# EAGLE library part NFA18SL227V1A45L (library Filters)
FILTER LC 220MHZ SMD Manufacturer's datasheet <https://www.murata.com/en-us/products/productdata/8796732686366/ENFD0007.pdf>
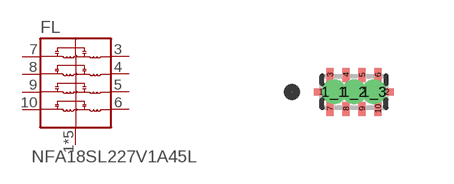
[diagram p3: symbol with the pads of 0603_ARRAY; footprint 0603_ARRAY]

Designator prefix FL

## NFA18SL227V1A45L (CREATED_BY: PCBLayout.com; DIGIKEY_PARTNO: 490-7791-2-ND; MANUFACTURER: Murata Electronics; MPN: NFA18SL227V1A45L; PACKAGE: 0603 ARRAY)  [0603_ARRAY]
1  GND  pas
1_1  GND  pas
1_2  GND  pas
1_3  GND  pas
2  GND  pas
3  3  pas
4  4  pas
5  5  pas
6  6  pas
7  7  pas
8  8  pas
9  9  pas
10  10  pas

## Footprint 0603_ARRAY (pad centres in mm)
smd 0.175 x 0.175: 1 -0.825,0; 2 0.825,0
drill 0.1 pad 0.2: 1_1 -0.5,0; 1_2 0,0; 1_3 0.5,0
smd 0.175 x 0.35: 3 -0.6,0.425; 4 -0.2,0.425; 5 0.2,0.425; 6 0.6,0.425; 7 -0.6,-0.425; 8 -0.2,-0.425; 9 0.2,-0.425; 10 0.6,-0.425